# EAGLE library part TL3116 (library driver)
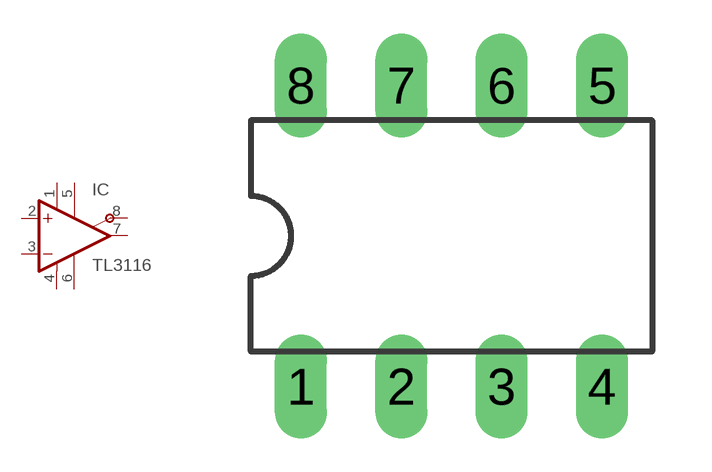
[diagram p1: symbol with the pads of DIL8; footprint DIL8]

Designator prefix IC

## TL3116  [DIL8]
1  V+  pwr
2  +IN  in
3  -IN  in
4  V-  pwr
5  LEN  pas
6  GND  pas
7  OUT  out
8  !OUT  pas

## Footprint DIL8 (pad centres in mm)
drill 0.813 long: 1 -3.81,-3.81; 2 -1.27,-3.81; 3 1.27,-3.81; 4 3.81,-3.81; 5 3.81,3.81; 6 1.27,3.81; 7 -1.27,3.81; 8 -3.81,3.81